# Altium integrated library TransistorThyristor_PTH.IntLib: 4 symbols
Pins are listed as number, name and electrical type; pins without a type are passive.

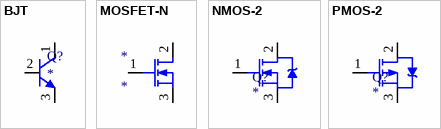
[diagram p0: symbols BJT to PMOS-2]

## BJT
designator Q?
footprint TO92-1
pins: 1 C, 2 B, 3 E

## MOSFET-N
designator *
footprint TO220
pins: 1 G, 2 D, 3 S

## NMOS-2
designator Q?
N-Channel Power MOSFET; Populated: Yes; ROHS: Yes; LifeCycle: Checked; Value: *
footprint TO220-3 1
pins: 1 G, 2 D, 3 S

## PMOS-2
designator Q?
P-Channel Power MOSFET; Populated: Yes; ROHS: Yes; LifeCycle: Checked; Value: *
footprint TO220-3 1
pins: 1 G, 2 D, 3 S